# EAGLE library part AFBR-5803Z (library avago-tech)
FDDI 100 Mb/s Transceiver
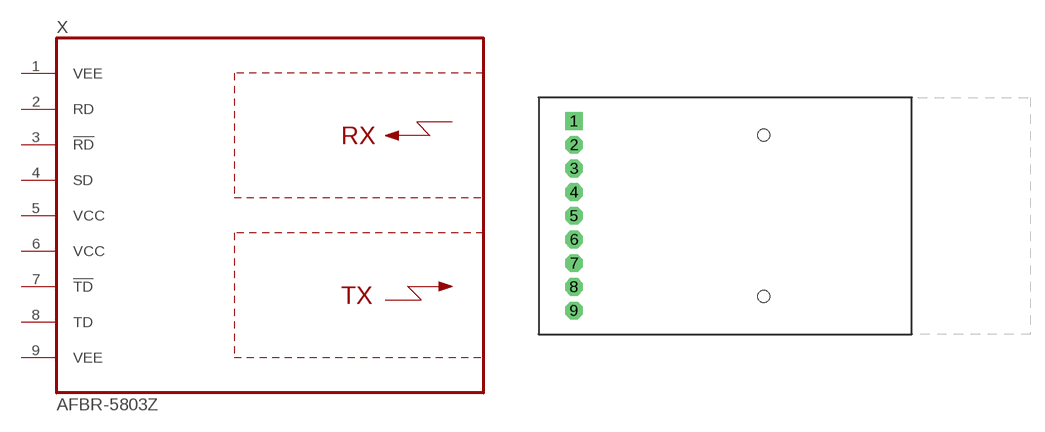
[diagram p2: symbol with the pads of AFBR-5803Z; footprint AFBR-5803Z]

Designator prefix X

## AFBR-5803Z  [AFBR-5803Z]
1  VEE  pwr
2  RD  out
3  !RD!  out
4  SD  out
5  VCC  pwr
6  VCC  pwr
7  !TD!  in
8  TD  in
9  VEE  pwr

## Footprint AFBR-5803Z (pad centres in mm)
FDDI Transceiver
drill 1.27 square: 1 0,10.16
drill 1.27 octagon: 2 0,7.62; 3 0,5.08; 4 0,2.54; 5 0,0; 6 0,-2.54; 7 0,-5.08; 8 0,-7.62; 9 0,-10.16
hole 1.27 at 20.32,8.661
hole 1.27 at 20.32,-8.661